# Altium schematic symbol library PCA9535_QFN.SchLib: 1 symbol
Pins are listed as number, name and electrical type; pins without a type are passive.

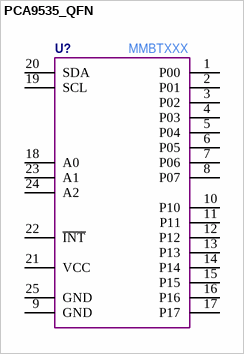
[diagram p0: symbol PCA9535_QFN]

## PCA9535_QFN
designator U?  Manufacturer Part Number: MMBTXXX  (hidden comment: *)
pins: 1 P00, 2 P01, 3 P02, 4 P03, 5 P04, 6 P05, 7 P06, 8 P07, 9 GND, 10 P10, 11 P11, 12 P12, 13 P13, 14 P14, 15 P15, 16 P16, 17 P17, 18 A0, 19 SCL, 20 SDA, 21 VCC, 22 ~{INT}, 23 A1, 24 A2, 25 GND